# Altium footprint library GeekIMUv1.PcbLib: 15 footprints
Each footprint in its own frame and in the unit in brackets; x right, y up, seen from the top. Pads: shape width x height; smd on the part's side, far side on the other; paste and mask are expansions set on the pad; w line width, h text height; cw(c..) or ccw(c..) is an arc to the next point about the centre after c.
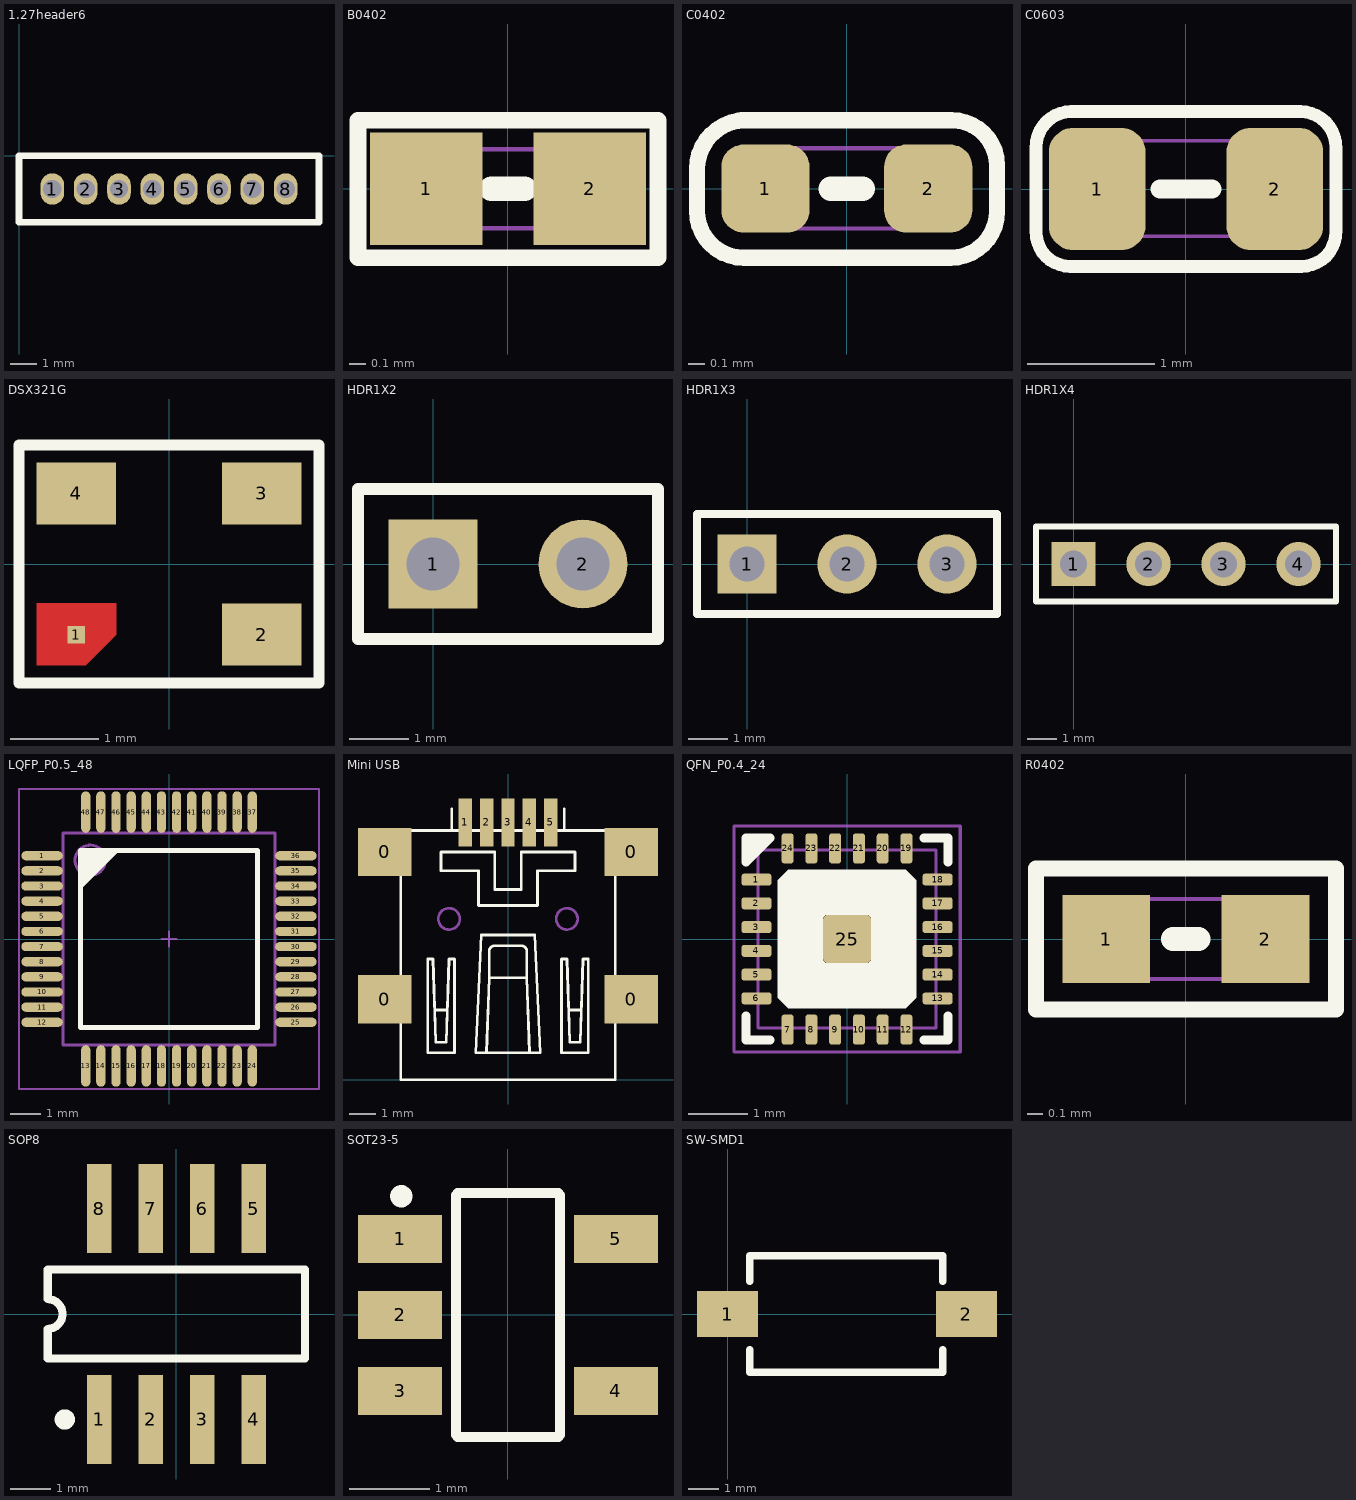
[diagram p0: the footprints below, top view; thin cyan lines are the x and y axes]

## 1.27header6 [mm]
pads (8):
  oval 0.9x1.2 hole 0.7: 1(1.27,-1.27) 2(2.54,-1.27) 3(3.81,-1.27) 4(5.08,-1.27) 5(6.35,-1.27) 6(7.62,-1.27) 7(8.89,-1.27) 8(10.16,-1.27)
Top Overlay:
  lines w0.254: 0,-2.54 0,0 10.16,0 11.43,0 11.43,-2.54 0,-2.54

## B0402 [mil]
pads (2):
  rect 27x27 smd: 1(-19.68,0) 2(19.69,0)
Top Overlay:
  lines w4: -36.1,-16.6 36.1,-16.6 36.1,16.5 -36.1,16.5 -36.1,-16.6
  lines w5.98: -3.94,0 3.94,0
Mechanical 1:
  lines w1: -19.79,-9.49 -19.79,9.5 19.58,9.5 19.58,-9.49 -19.79,-9.49
3D body: height 23.62, standoff 0, extent -19.69,-9.84 19.69,9.84

## C0402 [mm]
pads (2):
  rrect50% 0.55x0.55 smd: 1(-0.508,0) 2(0.508,0)
Top Overlay:
  lines w0.102: -0.658,0.427 0.655,0.427 cw(c0.655,0.145) 0.937,0.145 0.937,-0.142 cw(c0.648,-0.142) 0.648,-0.432 -0.643,-0.432 cw(c-0.643,-0.14) -0.935,-0.14 -0.935,0.122 cw(c-0.63,0.122) -0.63,0.427
  lines w0.152: -0.1,0 0.1,0
Mechanical 1:
  lines w0.025: -0.504,-0.248 0.496,-0.248 0.496,0.252 -0.504,0.252 -0.504,-0.248
3D body: height 0.56, standoff 0, extent -0.5,-0.252 0.5,0.248

## C0603 [mil]
pads (2):
  rrect50% 30x38 smd: 1(-27.56,0) 2(27.56,0)
Top Overlay:
  lines w4: -46.5,-13.51 ccw(c-36.01,-13.51) -36.01,-24 35.91,-24 ccw(c35.91,-13.4) 46.5,-13.41 46.5,-12.21 46.5,11.97 46.5,13.07 ccw(c35.57,13.07) 35.57,24 -35.72,24 ccw(c-35.72,13.22) -46.5,13.22 -46.5,12.32 -46.5,-12.51 -46.5,-13.51
  lines w5.98: -8,0 8,0
Mechanical 1:
  lines w1: -27.56,-14.7 -27.56,0 -27.56,15 27.56,15 27.56,-14.7 -27.56,-14.7
3D body: height 21.65, standoff 0, extent -31.49,-15.75 31.5,15.75

## DSX321G [mm] "https://item.taobao.com/item.htm?id=40018408863&ali_refid=a3_420434_1006:1106509465:N:3225+16MHZ:2b0bf8fa00a527af1bd35d183b0115e7&ali_trackid=1_2b0bf8fa00a527af1bd35d183b0115e7&spm=a230r.1.1957635.9.Ak1QMW&ali_refid=a3_420434_1006:1106509465:N:3225+16MHZ"
height 2
pads (4):
  rect 0.2x0.2 smd: 1(-1.05,-0.8)
  rect 0.9x0.7 smd: 2(1.05,-0.8) 3(1.05,0.8) 4(-1.05,0.8)
Top Layer:
  region: -0.598,-0.446 -1.498,-0.446 -1.498,-1.146 -0.943,-1.146 -0.598,-0.801
Top Overlay:
  lines w0.127: -1.7,-1.35 -1.7,1.35 1.7,1.35 1.7,-1.35 -1.7,-1.35

## HDR1X2 [mm] "Connector; Header; 2 Positio"
pads (2):
  rect 1.5x1.5 hole 0.9: 1(0,0)
  round 1.5 hole 0.9: 2(2.54,0)
Top Overlay:
  lines w0.2: -1.27,-1.27 3.81,-1.27 3.81,1.27 -1.27,1.27 -1.27,-1.27

## HDR1X3 [mm] "Connector; Header; 3 Positio"
pads (3):
  rect 1.5x1.5 hole 0.9: 1(0,0)
  round 1.5 hole 0.9: 2(2.54,0) 3(5.08,0)
Top Overlay:
  lines w0.2: -1.27,-1.27 6.35,-1.27 6.35,1.27 -1.27,1.27 -1.27,-1.27

## HDR1X4 [mm] "Connector; Header; 4 Positio"
pads (4):
  rect 1.5x1.5 hole 0.9: 1(0,0)
  round 1.5 hole 0.9: 2(2.54,0) 3(5.08,0) 4(7.62,0)
Top Overlay:
  lines w0.2: -1.27,-1.27 -1.27,1.27 8.89,1.27 8.89,-1.27 -1.27,-1.27

## LQFP_P0.5_48 [mil]
height 62.99
pads (48):
  oval 54x12 smd: 1(-165,108.27) 2(-165,88.58) 3(-165,68.9) 4(-165,49.21) 5(-165,29.53) 6(-165,9.84) 7(-165,-9.84) 8(-165,-29.53) 9(-165,-49.21) 10(-165,-68.9) 11(-165,-88.58) 12(-165,-108.27) 25(165,-108.27) 26(165,-88.58) 27(165,-68.9) 28(165,-49.21) 29(165,-29.53) 30(165,-9.84) 31(165,9.84) 32(165,29.53) 33(165,49.21) 34(165,68.9) 35(165,88.58) 36(165,108.27)
  oval 12x54 smd: 13(-108.27,-165) 14(-88.58,-165) 15(-68.9,-165) 16(-49.21,-165) 17(-29.53,-165) 18(-9.84,-165) 19(9.84,-165) 20(29.53,-165) 21(49.21,-165) 22(68.9,-165) 23(88.58,-165) 24(108.27,-165) 37(108.27,165) 38(88.58,165) 39(68.9,165) 40(49.21,165) 41(29.53,165) 42(9.84,165) 43(-9.84,165) 44(-29.53,165) 45(-49.21,165) 46(-68.9,165) 47(-88.58,165) 48(-108.27,165)
Top Overlay:
  region: -115,115 -65,115 -115,65
  lines w6: -115,-115 -115,115 115,115 115,-115 -115,-115
Mechanical 13:
  circle w3.94: c-102.36,102.36 r19.68
  lines w2: -10,0 10,0 ; 0,-10 0,10
  lines w3.94: -137.8,-137.8 -137.8,137.8 137.8,137.8 137.8,-137.8 -137.8,-137.8
Mechanical 14:
  lines w2: -195,-195 195,-195 195,195 -195,195 -195,-195
3D body: height 61.42, standoff 0, extent -177.16,-177.66 177.17,176.67

## Mini USB [mm]
height 12
pads (9):
  rect 2x1.8 smd: 0(-4.6,3) 0(-4.6,8.5) 0(4.6,3) 0(4.6,8.5)
  rect 0.5x1.8 smd: 1(-1.6,9.6) 2(-0.8,9.6) 3(0,9.6) 4(0.8,9.6) 5(1.6,9.6)
Top Overlay:
  lines w0.1: -4,2.2 -5,2.2 -5,2.6 ccw(c-5,3) -5,3.4 -5,3.8 -4,3.8 ; -4,7.7 -5,7.7 -5,8.1 ccw(c-5,8.5) -5,8.9 -5,9.3 5,9.3 5,8.9 ccw(c5,8.5) 5,8.1 5,7.7 4,7.7 ; -4,9.3 -4,0 4,0 4,9.3 ; -2.7,2.6 -2.3,2.6 ; -2.1,9.3 -2.1,10.1 ; -0.8,1 -0.7,3.8 ; 0.8,1 0.7,3.8 ; 2.1,9.3 2.1,10.1 ; 2.3,2.6 2.7,2.6 ; 4,2.2 5,2.2 5,2.6 cw(c5,3) 5,3.4 5,3.8 4,3.8 ; -0.7,3.8 -0.7,4.8 cw(c-0.5,4.8) -0.5,5 0.5,5 cw(c0.5,4.8) 0.7,4.8 0.7,3.8 ; -0.7,3.8 0.7,3.8 ; -3,1 -3,4.5 -2.8,4.5 -2.7,1.4 -2.3,1.4 -2.2,4.5 -2,4.5 -2,1 -3,1 ; -2.5,7.8 -2.5,8.5 -0.5,8.5 -0.5,7.1 0.5,7.1 0.5,8.5 2.5,8.5 2.5,7.8 1.1,7.8 1.1,6.5 -1.1,6.5 -1.1,7.8 -2.5,7.8 ; -1.2,1 -1,5.4 1,5.4 1.2,1 -1.2,1 ; 2,1 2,4.5 2.2,4.5 2.3,1.4 2.7,1.4 2.8,4.5 3,4.5 3,1 2,1
Mechanical 1:
  circle w0.1: c-2.2,6 r0.4
  circle w0.1: c2.2,6 r0.4
3D body: height 1.95, standoff -2.95, extent -4.95,1.905 4.95,9.048

## QFN_P0.4_24 [mil]
height 39.37
pads (25):
  rrect50% 20x8 smd: 1(-60,39.37) 2(-60,23.62) 3(-60,7.87) 4(-60,-7.87) 5(-60,-23.62) 6(-60,-39.37) 13(60,-39.37) 14(60,-23.62) 15(60,-7.87) 16(60,7.87) 17(60,23.62) 18(60,39.37)
  rrect50% 8x20 smd: 7(-39.37,-60) 8(-23.62,-60) 9(-7.87,-60) 10(7.87,-60) 11(23.62,-60) 12(39.37,-60) 19(39.37,60) 20(23.62,60) 21(7.87,60) 22(-7.87,60) 23(-23.62,60) 24(-39.37,60)
  rrect20% 32x32 smd: 25(0,0)
Top Overlay:
  region: -67,67 -51,67 -67,51
  region: -39,46 39,46 46,39 46,-39 39,-46 12,-46 12,-16 14,-16 16,-14 16,14 14,16 -14,16 -16,14 -16,-14 -14,-16 12,-16 12,-46 -39,-46 -46,-39 -46,39
  lines w6: -67,-51 -67,-67 -51,-67 ; 51,-67 67,-67 67,-51 ; 51,67 67,67 67,51 ; -67,51 -51,67 -67,67 -67,51
Top Solder:
  region: -70.05,39.14 -70.05,-39.6 -50.05,-39.6 -50.05,39.14
  rectangle: -39.15,49.95 39.59,69.95
  region: 49.98,39.37 49.98,-39.37 69.98,-39.37 69.98,39.37
  rectangle: -39.14,-70.05 39.6,-50.05
Mechanical 13:
  lines w2: -10,0 10,0 ; 0,-10 0,10 ; -59.05,-59.06 -59.05,59.06 59.06,59.06 59.06,-59.06 -59.05,-59.06
Mechanical 14:
  lines w2: -75,-75 75,-75 75,75 -75,75 -75,-75
3D body: height 39.37, standoff 0, extent -59.84,-59.84 59.85,59.85

## R0402 [mm]
pads (2):
  rect 0.55x0.55 smd: 1(-0.5,0) 2(0.5,0)
Top Overlay:
  lines w0.102: -0.94,-0.442 0.942,-0.442 0.942,0.442 -0.846,0.442 -0.94,0.442 -0.94,-0.442
  lines w0.152: -0.08,0 0.08,0
Mechanical 1:
  lines w0.025: -0.5,-0.25 -0.5,0.25 0.5,0.25 0.5,-0.25 -0.5,-0.25
3D body: height 0.38, standoff 0, extent -0.5,-0.25 0.5,0.25

## SOP8 [mm] "Small Outline; 8 Leads; Body Width 4.3 mm; Pitch 1.27 m"
height 1.5
pads (8):
  rect 0.6x2.2 smd: 1(-1.905,-2.6) 2(-0.635,-2.6) 3(0.635,-2.6) 4(1.905,-2.6) 5(1.905,2.6) 6(0.635,2.6) 7(-0.635,2.6) 8(-1.905,2.6)
Top Overlay:
  circle w0.25: c-2.755,-2.6 r0.125
  lines w0.2: -3.175,-1.1 -3.175,-0.367 ccw(c-3.175,0) -3.175,0.367 -3.175,1.1 3.175,1.1 3.175,-1.1 -3.175,-1.1

## SOT23-5 [mm] "SOT23, 5-Leads, Body 3.0x3.0mm (max), Pitch 0.95mm, IPC Medium Densit"
height 1.45
pads (5):
  rect 1.05x0.6 smd: 1(-1.35,0.95) 2(-1.35,0) 3(-1.35,-0.95) 4(1.35,-0.95) 5(1.35,0.95)
Top Overlay:
  circle w0.152: c-1.333,1.483 r0.064
  lines w0.127: -0.65,-1.5 -0.65,1.5 ; -0.63,-1.525 0.632,-1.525 ; -0.63,1.525 0.632,1.525 ; 0.65,-1.5 0.65,1.5

## SW-SMD1 [mm]
height 12
pads (2):
  rect 2x1.5 smd: 1(0,0) 2(7.8,0)
Top Overlay:
  lines w0.254: 0.725,-1.168 0.725,-1.9 7.025,-1.9 7.025,-1.168 ; 0.725,1.067 0.725,1.9 7.025,1.9 7.025,1.067
3D body: height 2.5, standoff 0, extent -0.059,-1.945 7.831,1.905